# Altium footprint library ADS7052IRUGR.PcbLib: 1 footprints
Each footprint in its own frame and in the unit in brackets; x right, y up, seen from the top. Pads: shape width x height; smd on the part's side, far side on the other; paste and mask are expansions set on the pad; w line width, h text height; cw(c..) or ccw(c..) is an arc to the next point about the centre after c.
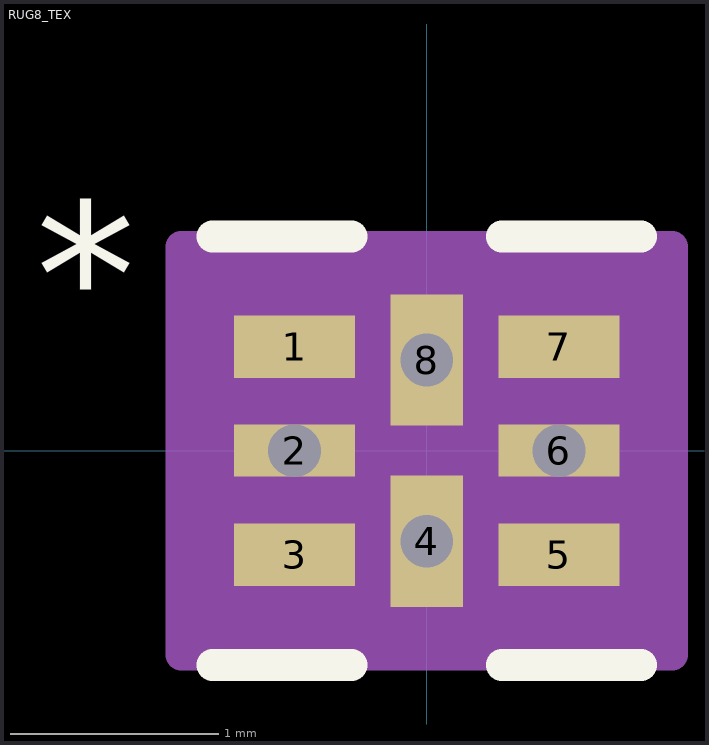
[diagram p0: the footprint, top view; thin cyan lines are the x and y axes]

## RUG8_TEX [mm]
pads (8):
  rect 0.58x0.3 smd paste-0.15 mask-0.292: 1(-0.635,0.5) 3(-0.635,-0.5) 5(0.635,-0.5) 7(0.635,0.5)
  rect 0.58x0.25 / inner round 1.524 / far side rect 0.58x0.25 hole 0.254 paste-0.29 mask+0: 2(-0.635,0) 6(0.635,0)
  rect 0.35x0.63 / inner round 1.524 / far side rect 0.35x0.63 hole 0.254 paste-0.315 mask+0: 4(0,-0.435) 8(0,0.435)
Top Overlay:
  lines w0.152: -1.029,-1.029 -0.361,-1.029 ; -1.029,1.029 -0.361,1.029 ; 0.361,-1.029 1.029,-1.029 ; 0.361,1.029 1.029,1.029
  text "*" at -1.877,0.496 h1.27
Top Paste:
  region: -0.37,0.625 -0.9,0.625 -0.9,0.375 -0.37,0.375
  region: -0.37,0.125 -0.9,0.125 -0.9,-0.125 -0.37,-0.125
  region: -0.37,-0.375 -0.9,-0.375 -0.9,-0.625 -0.37,-0.625
  region: 0.125,-0.17 -0.125,-0.17 -0.125,-0.7 0.125,-0.7
  region: 0.9,-0.375 0.37,-0.375 0.37,-0.625 0.9,-0.625
  region: 0.9,0.125 0.37,0.125 0.37,-0.125 0.9,-0.125
  region: 0.9,0.625 0.37,0.625 0.37,0.375 0.9,0.375
  region: 0.125,0.7 -0.125,0.7 -0.125,0.17 0.125,0.17
Top Solder:
  region: -0.295,0.7 -0.975,0.7 -0.975,0.3 -0.295,0.3
  region: -0.295,0.2 -0.975,0.2 -0.975,-0.2 -0.295,-0.2
  region: -0.295,-0.3 -0.975,-0.3 -0.975,-0.7 -0.295,-0.7
  region: 0.2,-0.095 -0.2,-0.095 -0.2,-0.775 0.2,-0.775
  region: 0.975,-0.3 0.295,-0.3 0.295,-0.7 0.975,-0.7
  region: 0.975,0.2 0.295,0.2 0.295,-0.2 0.975,-0.2
  region: 0.975,0.7 0.295,0.7 0.295,0.3 0.975,0.3
  region: 0.2,0.775 -0.2,0.775 -0.2,0.095 0.2,0.095
Mechanical 13:
  lines w0.025: -0.775,-0.495 0.495,0.775 ; -0.775,-0.65 -0.775,-0.35 ; -0.775,-0.65 -0.775,-0.35 ; -0.775,-0.65 -0.775,-0.65 ; -0.775,-0.35 -0.775,-0.35 ; -0.775,-0.15 -0.775,0.15 ; -0.775,-0.15 -0.775,0.15 ; -0.775,-0.15 -0.775,-0.15 ; -0.775,0.15 -0.775,0.15 ; -0.775,0.35 -0.775,0.65 ; -0.775,0.35 -0.775,0.65 ; -0.775,0.35 -0.775,0.35 ; -0.775,0.65 -0.775,0.65 ; -0.15,-0.775 0.15,-0.775 ; -0.15,-0.775 -0.15,-0.775 ; -0.15,-0.775 0.15,-0.775 ; -0.15,0.775 0.15,0.775 ; -0.15,0.775 0.15,0.775 ; -0.15,0.775 -0.15,0.775 ; 0.15,-0.775 0.15,-0.775 ; 0.15,0.775 0.15,0.775 ; 0.775,-0.65 0.775,-0.35 ; 0.775,-0.65 0.775,-0.65 ; 0.775,-0.65 0.775,-0.35 ; 0.775,-0.35 0.775,-0.35 ; 0.775,-0.15 0.775,0.15 ; 0.775,-0.15 0.775,-0.15 ; 0.775,-0.15 0.775,0.15 ; 0.775,0.15 0.775,0.15 ; 0.775,0.35 0.775,0.65 ; 0.775,0.35 0.775,0.35 ; 0.775,0.35 0.775,0.65 ; 0.775,0.65 0.775,0.65 ; -0.775,-0.775 0.775,-0.775 0.775,0.775 -0.775,0.775 -0.775,-0.775
  text "*" at -1.877,0.496 h1.27
Mechanical 15:
  region: 1.179,-0.979 -1.179,-0.979 -1.179,0.979 1.179,0.979
  lines w0.152: -1.179,-0.979 -1.179,0.979 1.179,0.979 1.179,-0.979 -1.179,-0.979